# EAGLE library part AD9954_AD9954YSVZ (library Low.Noise.Current.Source)
Direct Digital Synthesizer
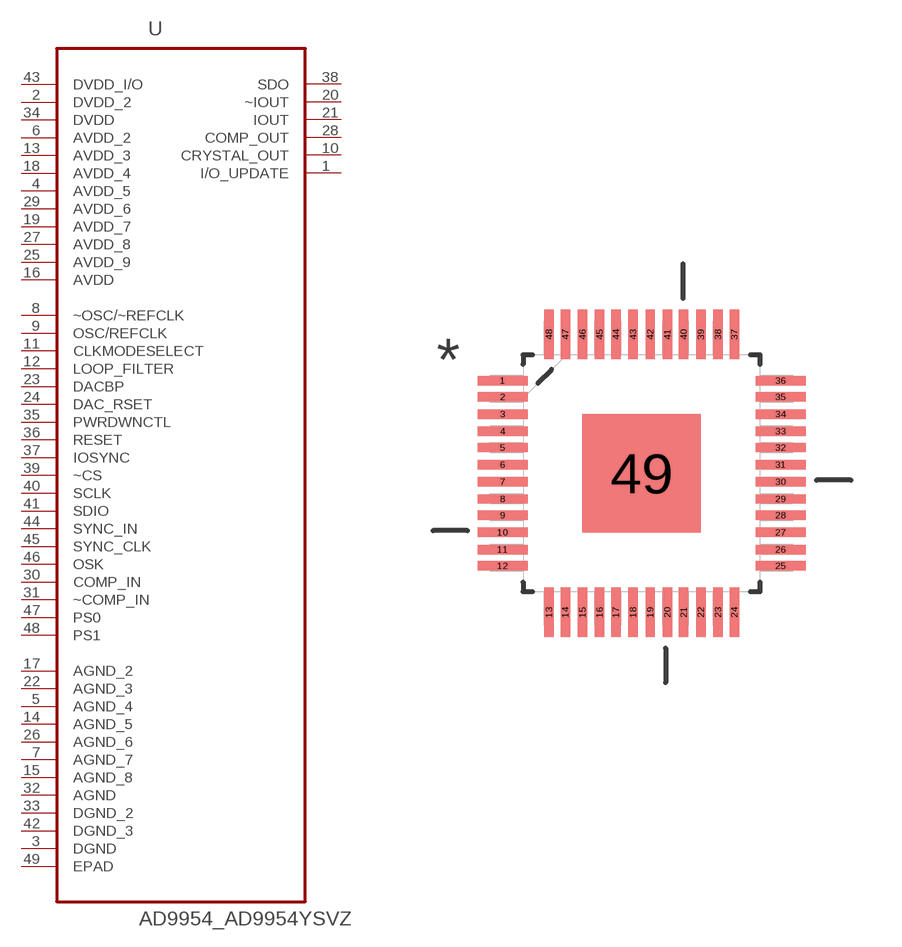
[diagram p0: symbol with the pads of AD9954_QFP50P900X900X120-49N; footprint AD9954_QFP50P900X900X120-49N]

Designator prefix U

## AD9954_AD9954YSVZ (MPN: AD9954YSVZ; OC_FARNELL: 1581969; OC_NEWARK: 19M8953; PACKAGE: TQFP-48; SUPPLIER: ANALOG DEVICES)  [AD9954_QFP50P900X900X120-49N]
1  I/O_UPDATE
2  DVDD_2  pwr
3  DGND  pas
4  AVDD_5  pwr
5  AGND_4  pas
6  AVDD_2  pwr
7  AGND_7  pas
8  ~OSC/~REFCLK  in
9  OSC/REFCLK  in
10  CRYSTAL_OUT  out
11  CLKMODESELECT  in
12  LOOP_FILTER  in
13  AVDD_3  pwr
14  AGND_5  pas
15  AGND_8  pas
16  AVDD  pwr
17  AGND_2  pas
18  AVDD_4  pwr
19  AVDD_7  pwr
20  ~IOUT  out
21  IOUT  out
22  AGND_3  pas
23  DACBP  in
24  DAC_RSET  in
25  AVDD_9  pwr
26  AGND_6  pas
27  AVDD_8  pwr
28  COMP_OUT  pas
29  AVDD_6  pwr
30  COMP_IN  in
31  ~COMP_IN  in
32  AGND  pas
33  DGND_2  pas
34  DVDD  pwr
35  PWRDWNCTL  in
36  RESET  in
37  IOSYNC  in
38  SDO  out
39  ~CS  in
40  SCLK  in
41  SDIO  in
42  DGND_3  pas
43  DVDD_I/O  pwr
44  SYNC_IN  in
45  SYNC_CLK  in
46  OSK  in
47  PS0  in
48  PS1  in
49  EPAD  pas

## Footprint AD9954_QFP50P900X900X120-49N (pad centres in mm)
smd 1.473 x 0.279: 1 -4.115,2.743; 2 -4.115,2.261; 3 -4.115,1.753; 4 -4.115,1.245; 5 -4.115,0.762; 6 -4.115,0.254; 7 -4.115,-0.254; 8 -4.115,-0.762; 9 -4.115,-1.245; 10 -4.115,-1.753; 11 -4.115,-2.261; 12 -4.115,-2.743; 25 4.115,-2.743; 26 4.115,-2.261; 27 4.115,-1.753; 28 4.115,-1.245; 29 4.115,-0.762; 30 4.115,-0.254; 31 4.115,0.254; 32 4.115,0.762; 33 4.115,1.245; 34 4.115,1.753; 35 4.115,2.261; 36 4.115,2.743
smd 0.279 x 1.473: 13 -2.743,-4.115; 14 -2.261,-4.115; 15 -1.753,-4.115; 16 -1.245,-4.115; 17 -0.762,-4.115; 18 -0.254,-4.115; 19 0.254,-4.115; 20 0.762,-4.115; 21 1.245,-4.115; 22 1.753,-4.115; 23 2.261,-4.115; 24 2.743,-4.115; 37 2.743,4.115; 38 2.261,4.115; 39 1.753,4.115; 40 1.245,4.115; 41 0.762,4.115; 42 0.254,4.115; 43 -0.254,4.115; 44 -0.762,4.115; 45 -1.245,4.115; 46 -1.753,4.115; 47 -2.261,4.115; 48 -2.743,4.115
smd 3.505 x 3.505: 49 0,0